# EAGLE library part CP2105 (library U-Transceiver)
CP2105 SILABS@CP2105-F01-GMR TRANSCEIVER USB DUAL UART 24QFN
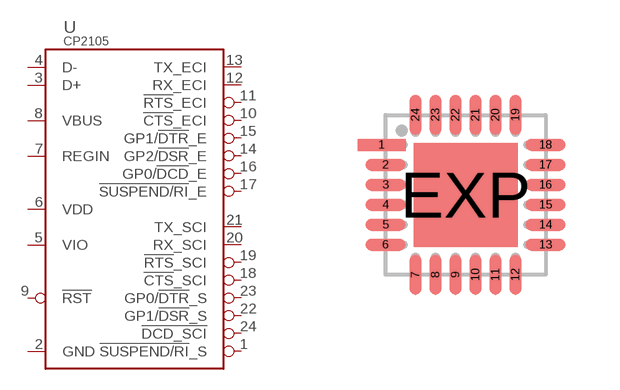
[diagram p8: symbol with the pads of QFN24; footprint QFN24]

Designator prefix U

## CP2105  [QFN24]
1  !SUSPEND/RI!_S  in
2  GND  pwr
3  D+  in
4  D-  in
5  VIO  pwr
6  VDD  out
7  REGIN  pwr
8  VBUS  pwr
9  !RST!  in
10  !CTS!_ECI  in
11  !RTS!_ECI  out
12  RX_ECI  in
13  TX_ECI  out
14  GP2/!DSR!_E  in
15  GP1/!DTR!_E  out
16  GP0/!DCD!_E  in
17  !SUSPEND/RI!_E  in
18  !CTS!_SCI  in
19  !RTS!_SCI  out
20  RX_SCI  in
21  TX_SCI  out
22  GP1/!DSR!_S  in
23  GP0/!DTR!_S  out
24  !DCD_SCI!  in

## Footprint QFN24 (pad centres in mm)
QFN24 Source: www.silabs.com .. CP2105.pdf
smd 1.2 x 0.3: 1 -2.1,1.25
smd 1 x 0.3: 2 -2,0.75; 3 -2,0.25; 4 -2,-0.25; 5 -2,-0.75; 6 -2,-1.25; 13 2,-1.25; 14 2,-0.75; 15 2,-0.25; 16 2,0.25; 17 2,0.75; 18 2,1.25
smd 0.3 x 1: 7 -1.25,-2; 8 -0.75,-2; 9 -0.25,-2; 10 0.25,-2; 11 0.75,-2; 12 1.25,-2; 19 1.25,2; 20 0.75,2; 21 0.25,2; 22 -0.25,2; 23 -0.75,2; 24 -1.25,2
smd 2.6 x 2.6: EXP 0,0